# Altium schematic symbol library Communication Connectors.SchLib: 8 symbols
Pins are listed as number, name and electrical type; pins without a type are passive.

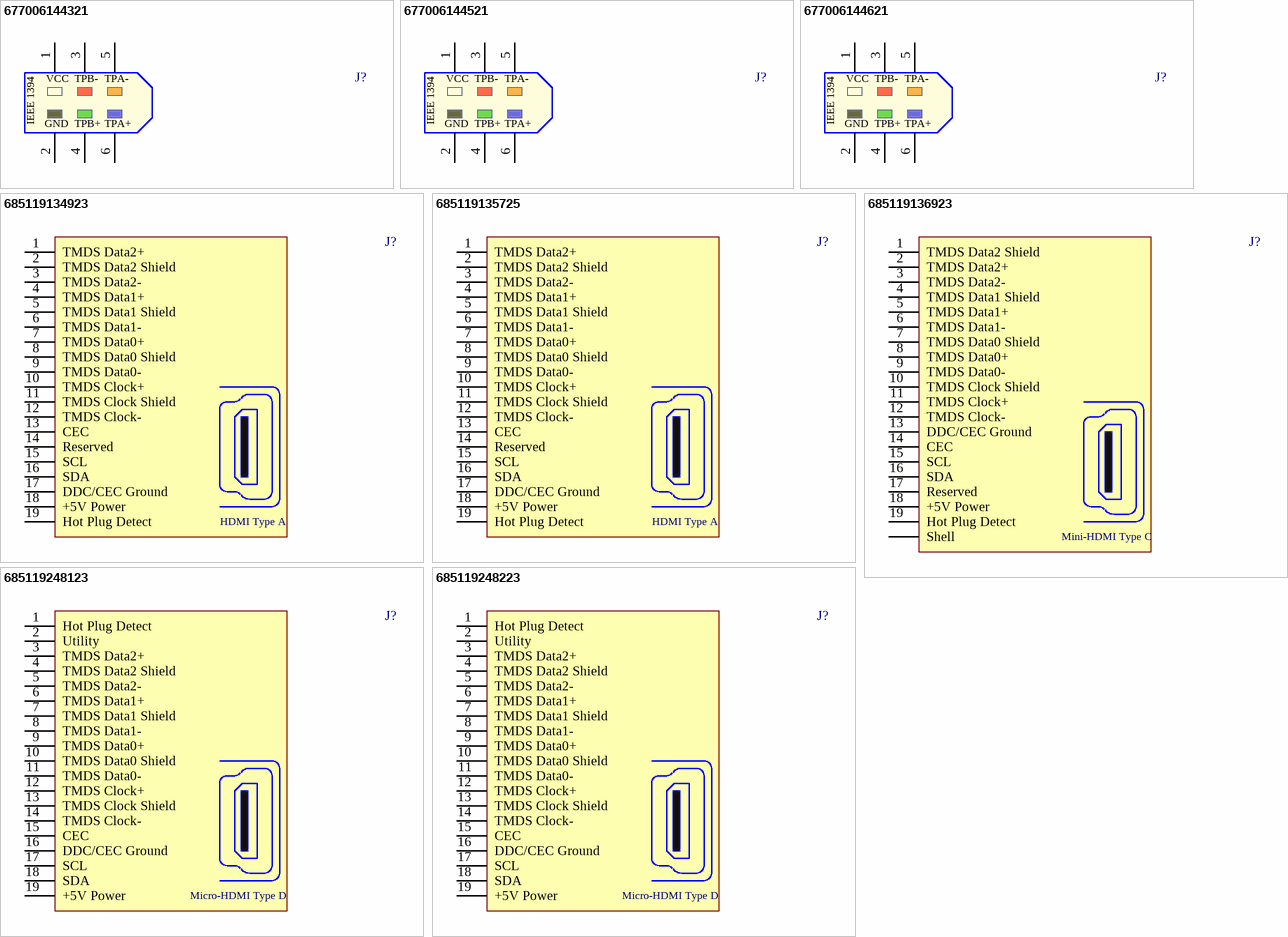
[diagram p0: symbols 677006144321 to 685119248223]

## 677006144321
designator J?
WR-COM IEEE 1394 Up Right Receptacle; PartNumber: 677006144321; Published: June 2016; Publisher: Wurth Elektronik; ComponentLink1Description: Manufacturer; ComponentLink1URL: http://www.we-online.de; ComponentLink2Description: Datasheet; ComponentLink2URL: http://katalog.we-online.de/em/datasheet/677006144321.pdf
footprint 677006144321 (Female PCB connector Up-right TH)
pins: 1 VCC, 2 GND, 3 TPB-, 4 TPB+, 5 TPA-, 6 TPA+
text: IEEE 1394

## 677006144521
designator J?
WR-COM IEEE 1394 Horizontal Receptacle; PartNumber: 677006144521; Published: June 2016; Publisher: Wurth Elektronik; ComponentLink1Description: Manufacturer; ComponentLink1URL: http://www.we-online.de; ComponentLink2Description: Datasheet; ComponentLink2URL: http://katalog.we-online.de/em/datasheet/677006144521.pdf
footprint 677006144521 (Female PCB connector Horizontal TH)
pins: 1 VCC, 2 GND, 3 TPB-, 4 TPB+, 5 TPA-, 6 TPA+
text: IEEE 1394

## 677006144621
designator J?
WR-COM IEEE 1394 Vertical Receptacle; PartNumber: 677006144621; Published: June 2016; Publisher: Wurth Elektronik; ComponentLink1Description: Manufacturer; ComponentLink1URL: http://www.we-online.de; ComponentLink2Description: Datasheet; ComponentLink2URL: http://katalog.we-online.de/em/datasheet/677006144621.pdf
footprint 677006144621 (Female PCB connector Vertical TH)
pins: 1 VCC, 2 GND, 3 TPB-, 4 TPB+, 5 TPA-, 6 TPA+
text: IEEE 1394

## 685119134923
designator J?
WR-COM HDMI SMT Horizontal, Type A; PartNumber: 685119134923; Published: June 2016; Publisher: Wurth Elektronik; ComponentLink1Description: Manufacturer; ComponentLink1URL: http://www.we-online.de; ComponentLink2Description: Datasheet; ComponentLink2URL: http://katalog.we-online.de/em/datasheet/685119134923.pdf
footprint 685119134923 (19 pins)
pins: 1 TMDS Data2+, 2 TMDS Data2 Shield, 3 TMDS Data2-, 4 TMDS Data1+, 5 TMDS Data1 Shield, 6 TMDS Data1-, 7 TMDS Data0+, 8 TMDS Data0 Shield, 9 TMDS Data0-, 10 TMDS Clock+, 11 TMDS Clock Shield, 12 TMDS Clock-, 13 CEC, 14 Reserved, 15 SCL, 16 SDA, 17 DDC/CEC Ground, 18 +5V Power, 19 Hot Plug Detect
text: HDMI Type A

## 685119135725
designator J?
WR-COM HDMI SMT Horizontal with M3 screw, Type A; PartNumber: 685119135725; Published: June 2016; Publisher: Wurth Elektronik; ComponentLink1Description: Manufacturer; ComponentLink1URL: http://www.we-online.de; ComponentLink2Description: Datasheet; ComponentLink2URL: http://katalog.we-online.de/em/datasheet/685119135725.pdf
footprint 685119135725 (19p + M3 flange)
pins: 1 TMDS Data2+, 2 TMDS Data2 Shield, 3 TMDS Data2-, 4 TMDS Data1+, 5 TMDS Data1 Shield, 6 TMDS Data1-, 7 TMDS Data0+, 8 TMDS Data0 Shield, 9 TMDS Data0-, 10 TMDS Clock+, 11 TMDS Clock Shield, 12 TMDS Clock-, 13 CEC, 14 Reserved, 15 SCL, 16 SDA, 17 DDC/CEC Ground, 18 +5V Power, 19 Hot Plug Detect
text: HDMI Type A

## 685119136923
designator J?
WR-COM Mini HDMI SMT Horizontal, Type C; PartNumber: 685119136923; Published: June 2016; Publisher: Wurth Elektronik; ComponentLink1Description: Manufacturer; ComponentLink1URL: http://www.we-online.de; ComponentLink2Description: Datasheet; ComponentLink2URL: http://katalog.we-online.de/em/datasheet/685119136923.pdf
footprint 685119136923 (19p)
pins: 1 TMDS Data2 Shield, 2 TMDS Data2+, 3 TMDS Data2-, 4 TMDS Data1 Shield, 5 TMDS Data1+, 6 TMDS Data1-, 7 TMDS Data0 Shield, 8 TMDS Data0+, 9 TMDS Data0-, 10 TMDS Clock Shield, 11 TMDS Clock+, 12 TMDS Clock-, 13 DDC/CEC Ground, 14 CEC, 15 SCL, 16 SDA, 17 Reserved, 18 +5V Power, 19 Hot Plug Detect, Shell
text: Mini-HDMI Type C

## 685119248123
designator J?
WR-COM Micro HDMI Horizontal SMT, Type D; PartNumber: 685119248123; Published: June 2016; Publisher: Wurth Elektronik; ComponentLink1Description: Manufacturer; ComponentLink1URL: http://www.we-online.de; ComponentLink2Description: Datasheet; ComponentLink2URL: http://katalog.we-online.de/em/datasheet/685119248123.pdf
footprint 685119248123 (Receptacle THT shell tabs)
pins: 1 Hot Plug Detect, 2 Utility, 3 TMDS Data2+, 4 TMDS Data2 Shield, 5 TMDS Data2-, 6 TMDS Data1+, 7 TMDS Data1 Shield, 8 TMDS Data1-, 9 TMDS Data0+, 10 TMDS Data0 Shield, 11 TMDS Data0-, 12 TMDS Clock+, 13 TMDS Clock Shield, 14 TMDS Clock-, 15 CEC, 16 DDC/CEC Ground, 17 SCL, 18 SDA, 19 +5V Power
text: Micro-HDMI Type D

## 685119248223
designator J?
WR-COM Micro HDMI Horizontal SMT Hybrid Mount, Type D; PartNumber: 685119248223; Published: June 2016; Publisher: Wurth Elektronik; ComponentLink1Description: Manufacturer; ComponentLink1URL: http://www.we-online.de; ComponentLink2Description: Datasheet; ComponentLink2URL: http://katalog.we-online.de/em/datasheet/685119248223.pdf
footprint 685119248223 (Receptacle Hybird Mount consist of Vertical and Horizontal Type shell tabs)
pins: 1 Hot Plug Detect, 2 Utility, 3 TMDS Data2+, 4 TMDS Data2 Shield, 5 TMDS Data2-, 6 TMDS Data1+, 7 TMDS Data1 Shield, 8 TMDS Data1-, 9 TMDS Data0+, 10 TMDS Data0 Shield, 11 TMDS Data0-, 12 TMDS Clock+, 13 TMDS Clock Shield, 14 TMDS Clock-, 15 CEC, 16 DDC/CEC Ground, 17 SCL, 18 SDA, 19 +5V Power
text: Micro-HDMI Type D